# Altium schematic symbol library RFB-0505S.SchLib: 1 symbol
Pins are listed as number, name and electrical type; pins without a type are passive.

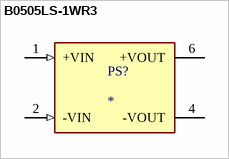
[diagram p0: symbol B0505LS-1WR3]

## B0505LS-1WR3
designator PS?
1W DC/DC-Converter 'ECONOLINE' SIP7 1kV unreg; MF: Recom Power; MP: RFB-0505S; SnapEDA_Link: https://www.snapeda.com/parts/RFB-0505S/Recom+Power/view-part/?ref=snap; Package: SIP-6 Recom Power; Value: *; Check_prices: https://www.snapeda.com/parts/RFB-0505S/Recom+Power/view-part/?ref=eda
footprint CONV_RFB-0505S
pins: 1 +VIN (in), 2 -VIN (in), 4 -VOUT, 6 +VOUT (power)